# Altium schematic symbol library WL-OCPT.SchLib: 88 symbols (part 1 of 2)
Pins are listed as number, name and electrical type; pins without a type are passive.

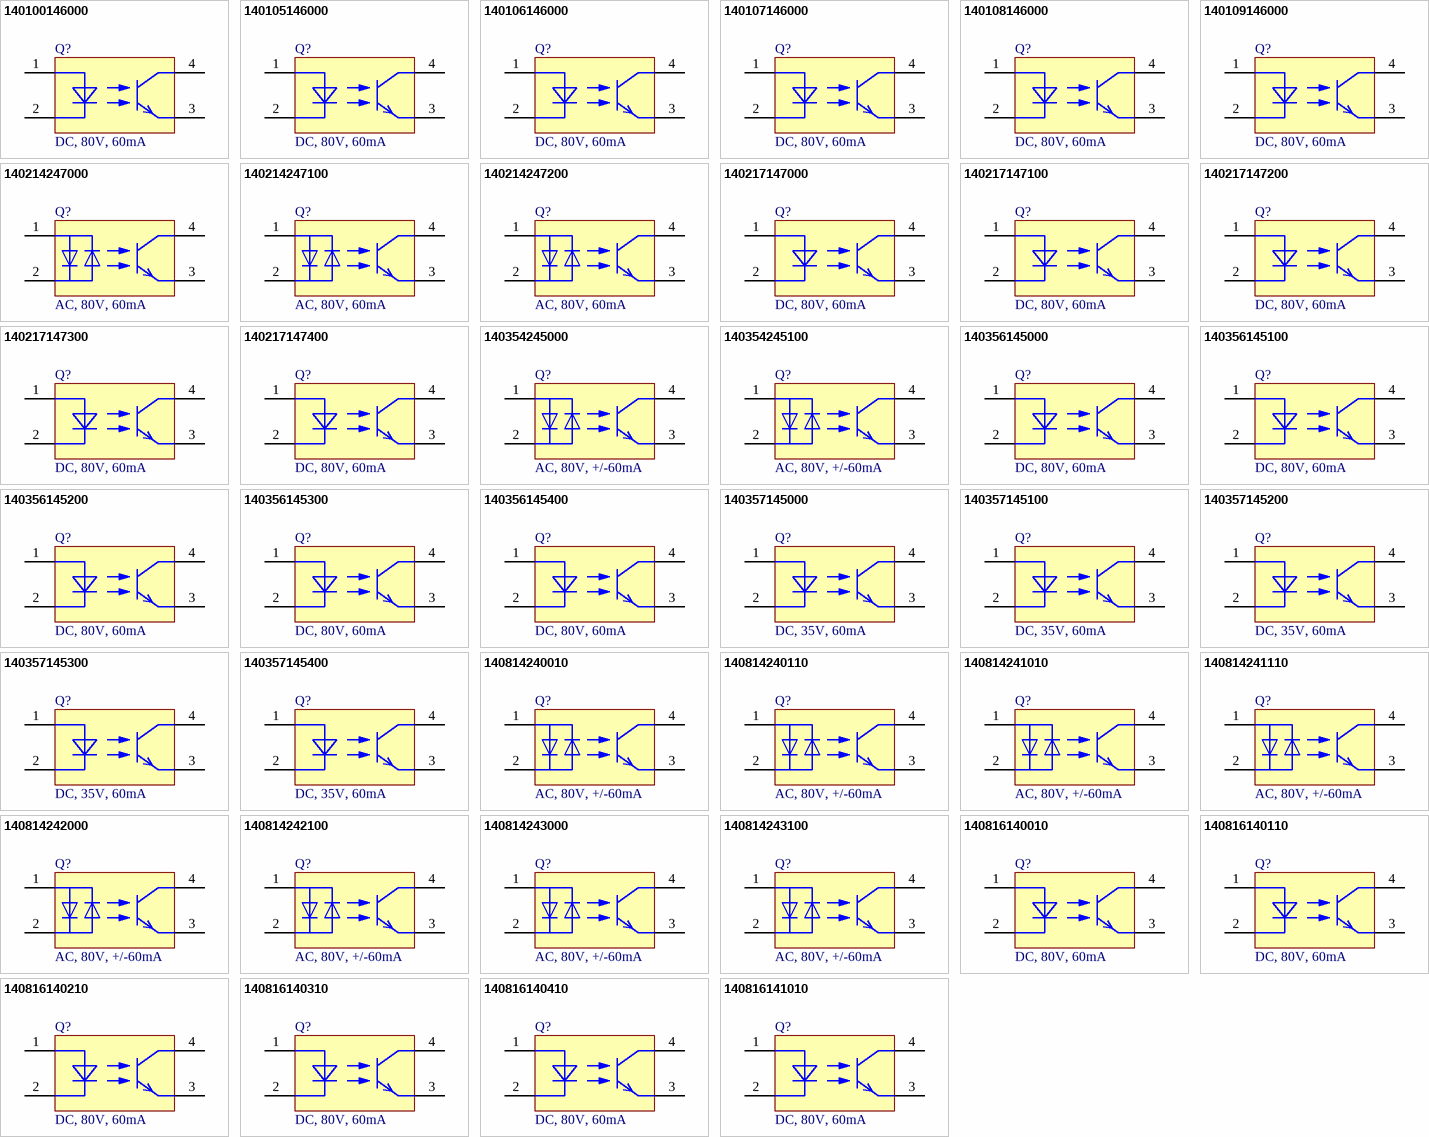
[diagram p0: symbols 140100146000 to 140816141010]

## 140100146000
designator Q?, comment DC, 80V, 60mA
WL-OCPT Optocoupler Phototransistor, LSOP4, 1 Channel, DC, 80V, 60mA; Manufacturer Part Number: 140100146000; Manufacturer: Wurth Elektronik; Current Transfer Ratio Max: 600%; Current Transfer Ratio Min: 300%; Isolation Voltage: 5000Vrms; Number of Channels: 1; Category: Optocoupler Phototransistor; Match Code: WL-OCPT; ComponentLink1Description: Website Link; ComponentLink1URL: https://www.we-online.com/redexpert/article/140100146000?ad; ComponentLink2Description: Datasheet Link; ComponentLink2URL: https://www.we-online.com/redexpert/spec/140100146000?ad; Mount: Surface Mount; Min Operating Temperature: -55°C; Max Operating Temperature: 110°C; Packaging: Tape and Reel; Case/Size Code: LSOP4; Length: 10.2mm; Width: 3.6mm; Height: 2.1mm; Collector Emitter Voltage: 80V; Forward Current: 60mA; Input: DC
footprint WL-OCPT_LSOP4
pins: 1 Anode, 2 Cathode, 3 Emitter, 4 Collector

## 140105146000
designator Q?, comment DC, 80V, 60mA
WL-OCPT Optocoupler Phototransistor, LSOP4, 1 Channel, DC, 80V, 60mA; Manufacturer Part Number: 140105146000; Manufacturer: Wurth Elektronik; Current Transfer Ratio Max: 150%; Current Transfer Ratio Min: 50%; Isolation Voltage: 5000Vrms; Number of Channels: 1; Category: Optocoupler Phototransistor; Match Code: WL-OCPT; ComponentLink1Description: Website Link; ComponentLink1URL: https://www.we-online.com/redexpert/article/140105146000?ad; ComponentLink2Description: Datasheet Link; ComponentLink2URL: https://www.we-online.com/redexpert/spec/140105146000?ad; Mount: Surface Mount; Min Operating Temperature: -55°C; Max Operating Temperature: 110°C; Packaging: Tape and Reel; Case/Size Code: LSOP4; Length: 10.2mm; Width: 3.6mm; Height: 2.1mm; Collector Emitter Voltage: 80V; Forward Current: 60mA; Input: DC
footprint WL-OCPT_LSOP4
pins: 1 Anode, 2 Cathode, 3 Emitter, 4 Collector

## 140106146000
designator Q?, comment DC, 80V, 60mA
WL-OCPT Optocoupler Phototransistor, LSOP4, 1 Channel, DC, 80V, 60mA; Manufacturer Part Number: 140106146000; Manufacturer: Wurth Elektronik; Current Transfer Ratio Max: 300%; Current Transfer Ratio Min: 100%; Isolation Voltage: 5000Vrms; Number of Channels: 1; Category: Optocoupler Phototransistor; Match Code: WL-OCPT; ComponentLink1Description: Website Link; ComponentLink1URL: https://www.we-online.com/redexpert/article/140106146000?ad; ComponentLink2Description: Datasheet Link; ComponentLink2URL: https://www.we-online.com/redexpert/spec/140106146000?ad; Mount: Surface Mount; Min Operating Temperature: -55°C; Max Operating Temperature: 110°C; Packaging: Tape and Reel; Case/Size Code: LSOP4; Length: 10.2mm; Width: 3.6mm; Height: 2.1mm; Collector Emitter Voltage: 80V; Forward Current: 60mA; Input: DC
footprint WL-OCPT_LSOP4
pins: 1 Anode, 2 Cathode, 3 Emitter, 4 Collector

## 140107146000
designator Q?, comment DC, 80V, 60mA
WL-OCPT Optocoupler Phototransistor, LSOP4, 1 Channel, DC, 80V, 60mA; Manufacturer Part Number: 140107146000; Manufacturer: Wurth Elektronik; Current Transfer Ratio Max: 160%; Current Transfer Ratio Min: 80%; Isolation Voltage: 5000Vrms; Number of Channels: 1; Category: Optocoupler Phototransistor; Match Code: WL-OCPT; ComponentLink1Description: Website Link; ComponentLink1URL: https://www.we-online.com/redexpert/article/140107146000?ad; ComponentLink2Description: Datasheet Link; ComponentLink2URL: https://www.we-online.com/redexpert/spec/140107146000?ad; Mount: Surface Mount; Min Operating Temperature: -55°C; Max Operating Temperature: 110°C; Packaging: Tape and Reel; Case/Size Code: LSOP4; Length: 10.2mm; Width: 3.6mm; Height: 2.1mm; Collector Emitter Voltage: 80V; Forward Current: 60mA; Input: DC
footprint WL-OCPT_LSOP4
pins: 1 Anode, 2 Cathode, 3 Emitter, 4 Collector

## 140108146000
designator Q?, comment DC, 80V, 60mA
WL-OCPT Optocoupler Phototransistor, LSOP4, 1 Channel, DC, 80V, 60mA; Manufacturer Part Number: 140108146000; Manufacturer: Wurth Elektronik; Current Transfer Ratio Max: 260%; Current Transfer Ratio Min: 130%; Isolation Voltage: 5000Vrms; Number of Channels: 1; Category: Optocoupler Phototransistor; Match Code: WL-OCPT; ComponentLink1Description: Website Link; ComponentLink1URL: https://www.we-online.com/redexpert/article/140108146000?ad; ComponentLink2Description: Datasheet Link; ComponentLink2URL: https://www.we-online.com/redexpert/spec/140108146000?ad; Mount: Surface Mount; Min Operating Temperature: -55°C; Max Operating Temperature: 110°C; Packaging: Tape and Reel; Case/Size Code: LSOP4; Length: 10.2mm; Width: 3.6mm; Height: 2.1mm; Collector Emitter Voltage: 80V; Forward Current: 60mA; Input: DC
footprint WL-OCPT_LSOP4
pins: 1 Anode, 2 Cathode, 3 Emitter, 4 Collector

## 140109146000
designator Q?, comment DC, 80V, 60mA
WL-OCPT Optocoupler Phototransistor, LSOP4, 1 Channel, DC, 80V, 60mA; Manufacturer Part Number: 140109146000; Manufacturer: Wurth Elektronik; Current Transfer Ratio Max: 400%; Current Transfer Ratio Min: 200%; Isolation Voltage: 5000Vrms; Number of Channels: 1; Category: Optocoupler Phototransistor; Match Code: WL-OCPT; ComponentLink1Description: Website Link; ComponentLink1URL: https://www.we-online.com/redexpert/article/140109146000?ad; ComponentLink2Description: Datasheet Link; ComponentLink2URL: https://www.we-online.com/redexpert/spec/140109146000?ad; Mount: Surface Mount; Min Operating Temperature: -55°C; Max Operating Temperature: 110°C; Packaging: Tape and Reel; Case/Size Code: LSOP4; Length: 10.2mm; Width: 3.6mm; Height: 2.1mm; Collector Emitter Voltage: 80V; Forward Current: 60mA; Input: DC
footprint WL-OCPT_LSOP4
pins: 1 Anode, 2 Cathode, 3 Emitter, 4 Collector

## 140214247000
designator Q?, comment AC, 80V, 60mA
WL-OCPT Optocoupler Phototransistor, SSOP4, 1 Channel, AC, 80V, 60mA; Manufacturer Part Number: 140214247000; Manufacturer: Wurth Elektronik; Current Transfer Ratio Max: 400%; Current Transfer Ratio Min: 20%; Isolation Voltage: 3750Vrms; Number of Channels: 1; Category: Optocoupler Phototransistor; Match Code: WL-OCPT; ComponentLink1Description: Website Link; ComponentLink1URL: https://www.we-online.com/redexpert/article/140214247000?ad; ComponentLink2Description: Datasheet Link; ComponentLink2URL: https://www.we-online.com/redexpert/spec/140214247000?ad; Mount: Surface Mount; Min Operating Temperature: -55°C; Max Operating Temperature: 110°C; Packaging: Tape and Reel; Case/Size Code: SSOP4; Length: 7mm; Width: 2.7mm; Height: 2.1mm; Collector Emitter Voltage: 80V; Forward Current: 60mA; Input: AC
footprint WL-OCPT_SSOP4
pins: 1 Anode/Cathode, 2 Anode/Cathode, 3 Emitter, 4 Collector

## 140214247100
designator Q?, comment AC, 80V, 60mA
WL-OCPT Optocoupler Phototransistor, SSOP4, 1 Channel, AC, 80V, 60mA; Manufacturer Part Number: 140214247100; Manufacturer: Wurth Elektronik; Current Transfer Ratio Max: 150%; Current Transfer Ratio Min: 50%; Isolation Voltage: 3750Vrms; Number of Channels: 1; Category: Optocoupler Phototransistor; Match Code: WL-OCPT; ComponentLink1Description: Website Link; ComponentLink1URL: https://www.we-online.com/redexpert/article/140214247100?ad; ComponentLink2Description: Datasheet Link; ComponentLink2URL: https://www.we-online.com/redexpert/spec/140214247100?ad; Mount: Surface Mount; Min Operating Temperature: -55°C; Max Operating Temperature: 110°C; Packaging: Tape and Reel; Case/Size Code: SSOP4; Length: 7mm; Width: 2.7mm; Height: 2.1mm; Collector Emitter Voltage: 80V; Forward Current: 60mA; Input: AC
footprint WL-OCPT_SSOP4
pins: 1 Anode/Cathode, 2 Anode/Cathode, 3 Emitter, 4 Collector

## 140214247200
designator Q?, comment AC, 80V, 60mA
WL-OCPT Optocoupler Phototransistor, SSOP4, 1 Channel, AC, 80V, 60mA; Manufacturer Part Number: 140214247200; Manufacturer: Wurth Elektronik; Current Transfer Ratio Max: 400%; Current Transfer Ratio Min: 80%; Isolation Voltage: 3750Vrms; Number of Channels: 1; Category: Optocoupler Phototransistor; Match Code: WL-OCPT; ComponentLink1Description: Website Link; ComponentLink1URL: https://www.we-online.com/redexpert/article/140214247200?ad; ComponentLink2Description: Datasheet Link; ComponentLink2URL: https://www.we-online.com/redexpert/spec/140214247200?ad; Mount: Surface Mount; Min Operating Temperature: -55°C; Max Operating Temperature: 110°C; Packaging: Tape and Reel; Case/Size Code: SSOP4; Length: 7mm; Width: 2.7mm; Height: 2.1mm; Collector Emitter Voltage: 80V; Forward Current: 60mA; Input: AC
footprint WL-OCPT_SSOP4
pins: 1 Anode/Cathode, 2 Anode/Cathode, 3 Emitter, 4 Collector

## 140217147000
designator Q?, comment DC, 80V, 60mA
WL-OCPT Optocoupler Phototransistor, SSOP4, 1 Channel, DC, 80V, 60mA; Manufacturer Part Number: 140217147000; Manufacturer: Wurth Elektronik; Current Transfer Ratio Max: 600%; Current Transfer Ratio Min: 50%; Isolation Voltage: 3750Vrms; Number of Channels: 1; Category: Optocoupler Phototransistor; Match Code: WL-OCPT; ComponentLink1Description: Website Link; ComponentLink1URL: https://www.we-online.com/redexpert/article/140217147000?ad; ComponentLink2Description: Datasheet Link; ComponentLink2URL: https://www.we-online.com/redexpert/spec/140217147000?ad; Mount: Surface Mount; Min Operating Temperature: -55°C; Max Operating Temperature: 110°C; Packaging: Tape and Reel; Case/Size Code: SSOP4; Length: 7mm; Width: 2.7mm; Height: 2.1mm; Collector Emitter Voltage: 80V; Forward Current: 60mA; Input: DC
footprint WL-OCPT_SSOP4
pins: 1 Anode, 2 Cathode, 3 Emitter, 4 Collector

## 140217147100
designator Q?, comment DC, 80V, 60mA
WL-OCPT Optocoupler Phototransistor, SSOP4, 1 Channel, DC, 80V, 60mA; Manufacturer Part Number: 140217147100; Manufacturer: Wurth Elektronik; Current Transfer Ratio Max: 160%; Current Transfer Ratio Min: 80%; Isolation Voltage: 3750Vrms; Number of Channels: 1; Category: Optocoupler Phototransistor; Match Code: WL-OCPT; ComponentLink1Description: Website Link; ComponentLink1URL: https://www.we-online.com/redexpert/article/140217147100?ad; ComponentLink2Description: Datasheet Link; ComponentLink2URL: https://www.we-online.com/redexpert/spec/140217147100?ad; Mount: Surface Mount; Min Operating Temperature: -55°C; Max Operating Temperature: 110°C; Packaging: Tape and Reel; Case/Size Code: SSOP4; Length: 7mm; Width: 2.7mm; Height: 2.1mm; Collector Emitter Voltage: 80V; Forward Current: 60mA; Input: DC
footprint WL-OCPT_SSOP4
pins: 1 Anode, 2 Cathode, 3 Emitter, 4 Collector

## 140217147200
designator Q?, comment DC, 80V, 60mA
WL-OCPT Optocoupler Phototransistor, SSOP4, 1 Channel, DC, 80V, 60mA; Manufacturer Part Number: 140217147200; Manufacturer: Wurth Elektronik; Current Transfer Ratio Max: 260%; Current Transfer Ratio Min: 130%; Isolation Voltage: 3750Vrms; Number of Channels: 1; Category: Optocoupler Phototransistor; Match Code: WL-OCPT; ComponentLink1Description: Website Link; ComponentLink1URL: https://www.we-online.com/redexpert/article/140217147200?ad; ComponentLink2Description: Datasheet Link; ComponentLink2URL: https://www.we-online.com/redexpert/spec/140217147200?ad; Mount: Surface Mount; Min Operating Temperature: -55°C; Max Operating Temperature: 110°C; Packaging: Tape and Reel; Case/Size Code: SSOP4; Length: 7mm; Width: 2.7mm; Height: 2.1mm; Collector Emitter Voltage: 80V; Forward Current: 60mA; Input: DC
footprint WL-OCPT_SSOP4
pins: 1 Anode, 2 Cathode, 3 Emitter, 4 Collector

## 140217147300
designator Q?, comment DC, 80V, 60mA
WL-OCPT Optocoupler Phototransistor, SSOP4, 1 Channel, DC, 80V, 60mA; Manufacturer Part Number: 140217147300; Manufacturer: Wurth Elektronik; Current Transfer Ratio Max: 400%; Current Transfer Ratio Min: 200%; Isolation Voltage: 3750Vrms; Number of Channels: 1; Category: Optocoupler Phototransistor; Match Code: WL-OCPT; ComponentLink1Description: Website Link; ComponentLink1URL: https://www.we-online.com/redexpert/article/140217147300?ad; ComponentLink2Description: Datasheet Link; ComponentLink2URL: https://www.we-online.com/redexpert/spec/140217147300?ad; Mount: Surface Mount; Min Operating Temperature: -55°C; Max Operating Temperature: 110°C; Packaging: Tape and Reel; Case/Size Code: SSOP4; Length: 7mm; Width: 2.7mm; Height: 2.1mm; Collector Emitter Voltage: 80V; Forward Current: 60mA; Input: DC
footprint WL-OCPT_SSOP4
pins: 1 Anode, 2 Cathode, 3 Emitter, 4 Collector

## 140217147400
designator Q?, comment DC, 80V, 60mA
WL-OCPT Optocoupler Phototransistor, SSOP4, 1 Channel, DC, 80V, 60mA; Manufacturer Part Number: 140217147400; Manufacturer: Wurth Elektronik; Current Transfer Ratio Max: 600%; Current Transfer Ratio Min: 300%; Isolation Voltage: 3750Vrms; Number of Channels: 1; Category: Optocoupler Phototransistor; Match Code: WL-OCPT; ComponentLink1Description: Website Link; ComponentLink1URL: https://www.we-online.com/redexpert/article/140217147400?ad; ComponentLink2Description: Datasheet Link; ComponentLink2URL: https://www.we-online.com/redexpert/spec/140217147400?ad; Mount: Surface Mount; Min Operating Temperature: -55°C; Max Operating Temperature: 110°C; Packaging: Tape and Reel; Case/Size Code: SSOP4; Length: 7mm; Width: 2.7mm; Height: 2.1mm; Collector Emitter Voltage: 80V; Forward Current: 60mA; Input: DC
footprint WL-OCPT_SSOP4
pins: 1 Anode, 2 Cathode, 3 Emitter, 4 Collector

## 140354245000
designator Q?, comment AC, 80V, +/-60mA
WL-OCPT Optocoupler Phototransistor, SOP4, 1 Channel, AC, 80V, +/-60mA; Manufacturer Part Number: 140354245000; Manufacturer: Wurth Elektronik; Current Transfer Ratio Max: 300%; Current Transfer Ratio Min: 20%; Isolation Voltage: 3750Vrms; Number of Channels: 1; Category: Optocoupler Phototransistor; Match Code: WL-OCPT; ComponentLink1Description: Website Link; ComponentLink1URL: https://www.we-online.com/redexpert/article/140354245000?ad; ComponentLink2Description: Datasheet Link; ComponentLink2URL: https://www.we-online.com/redexpert/spec/140354245000?ad; Mount: Surface Mount; Min Operating Temperature: -55°C; Max Operating Temperature: 110°C; Packaging: Tape and Reel; Case/Size Code: SOP4; Length: 7mm; Width: 3.6mm; Height: 2.1mm; Collector Emitter Voltage: 80V; Forward Current: +/-60mA; Input: AC
footprint WL-OCPT_SOP4
pins: 1 Anode/Cathode, 2 Anode/Cathode, 3 Emitter, 4 Collector

## 140354245100
designator Q?, comment AC, 80V, +/-60mA
WL-OCPT Optocoupler Phototransistor, SOP4, 1 Channel, AC, 80V, +/-60mA; Manufacturer Part Number: 140354245100; Manufacturer: Wurth Elektronik; Current Transfer Ratio Max: 150%; Current Transfer Ratio Min: 50%; Isolation Voltage: 3750Vrms; Number of Channels: 1; Category: Optocoupler Phototransistor; Match Code: WL-OCPT; ComponentLink1Description: Website Link; ComponentLink1URL: https://www.we-online.com/redexpert/article/140354245100?ad; ComponentLink2Description: Datasheet Link; ComponentLink2URL: https://www.we-online.com/redexpert/spec/140354245100?ad; Mount: Surface Mount; Min Operating Temperature: -55°C; Max Operating Temperature: 110°C; Packaging: Tape and Reel; Case/Size Code: SOP4; Length: 7mm; Width: 3.6mm; Height: 2.1mm; Collector Emitter Voltage: 80V; Forward Current: +/-60mA; Input: AC
footprint WL-OCPT_SOP4
pins: 1 Anode/Cathode, 2 Anode/Cathode, 3 Emitter, 4 Collector

## 140356145000
designator Q?, comment DC, 80V, 60mA
WL-OCPT Optocoupler Phototransistor, SOP4, 1 Channel, DC, 80V, 60mA; Manufacturer Part Number: 140356145000; Manufacturer: Wurth Elektronik; Current Transfer Ratio Max: 600%; Current Transfer Ratio Min: 50%; Isolation Voltage: 3750Vrms; Number of Channels: 1; Category: Optocoupler Phototransistor; Match Code: WL-OCPT; ComponentLink1Description: Website Link; ComponentLink1URL: https://www.we-online.com/redexpert/article/140356145000?ad; ComponentLink2Description: Datasheet Link; ComponentLink2URL: https://www.we-online.com/redexpert/spec/140356145000?ad; Mount: Surface Mount; Min Operating Temperature: -55°C; Max Operating Temperature: 110°C; Packaging: Tape and Reel; Case/Size Code: SOP4; Length: 7mm; Width: 3.6mm; Height: 2.1mm; Collector Emitter Voltage: 80V; Forward Current: 60mA; Input: DC
footprint WL-OCPT_SOP4
pins: 1 Anode, 2 Cathode, 3 Emitter, 4 Collector

## 140356145100
designator Q?, comment DC, 80V, 60mA
WL-OCPT Optocoupler Phototransistor, SOP4, 1 Channel, DC, 80V, 60mA; Manufacturer Part Number: 140356145100; Manufacturer: Wurth Elektronik; Current Transfer Ratio Max: 160%; Current Transfer Ratio Min: 80%; Isolation Voltage: 3750Vrms; Number of Channels: 1; Category: Optocoupler Phototransistor; Match Code: WL-OCPT; ComponentLink1Description: Website Link; ComponentLink1URL: https://www.we-online.com/redexpert/article/140356145100?ad; ComponentLink2Description: Datasheet Link; ComponentLink2URL: https://www.we-online.com/redexpert/spec/140356145100?ad; Mount: Surface Mount; Min Operating Temperature: -55°C; Max Operating Temperature: 110°C; Packaging: Tape and Reel; Case/Size Code: SOP4; Length: 7mm; Width: 3.6mm; Height: 2.1mm; Collector Emitter Voltage: 80V; Forward Current: 60mA; Input: DC
footprint WL-OCPT_SOP4
pins: 1 Anode, 2 Cathode, 3 Emitter, 4 Collector

## 140356145200
designator Q?, comment DC, 80V, 60mA
WL-OCPT Optocoupler Phototransistor, SOP4, 1 Channel, DC, 80V, 60mA; Manufacturer Part Number: 140356145200; Manufacturer: Wurth Elektronik; Current Transfer Ratio Max: 260%; Current Transfer Ratio Min: 130%; Isolation Voltage: 3750Vrms; Number of Channels: 1; Category: Optocoupler Phototransistor; Match Code: WL-OCPT; ComponentLink1Description: Website Link; ComponentLink1URL: https://www.we-online.com/redexpert/article/140356145200?ad; ComponentLink2Description: Datasheet Link; ComponentLink2URL: https://www.we-online.com/redexpert/spec/140356145200?ad; Mount: Surface Mount; Min Operating Temperature: -55°C; Max Operating Temperature: 110°C; Packaging: Tape and Reel; Case/Size Code: SOP4; Length: 7mm; Width: 3.6mm; Height: 2.1mm; Collector Emitter Voltage: 80V; Forward Current: 60mA; Input: DC
footprint WL-OCPT_SOP4
pins: 1 Anode, 2 Cathode, 3 Emitter, 4 Collector

## 140356145300
designator Q?, comment DC, 80V, 60mA
WL-OCPT Optocoupler Phototransistor, SOP4, 1 Channel, DC, 80V, 60mA; Manufacturer Part Number: 140356145300; Manufacturer: Wurth Elektronik; Current Transfer Ratio Max: 400%; Current Transfer Ratio Min: 200%; Isolation Voltage: 3750Vrms; Number of Channels: 1; Category: Optocoupler Phototransistor; Match Code: WL-OCPT; ComponentLink1Description: Website Link; ComponentLink1URL: https://www.we-online.com/redexpert/article/140356145300?ad; ComponentLink2Description: Datasheet Link; ComponentLink2URL: https://www.we-online.com/redexpert/spec/140356145300?ad; Mount: Surface Mount; Min Operating Temperature: -55°C; Max Operating Temperature: 110°C; Packaging: Tape and Reel; Case/Size Code: SOP4; Length: 7mm; Width: 3.6mm; Height: 2.1mm; Collector Emitter Voltage: 80V; Forward Current: 60mA; Input: DC
footprint WL-OCPT_SOP4
pins: 1 Anode, 2 Cathode, 3 Emitter, 4 Collector

## 140356145400
designator Q?, comment DC, 80V, 60mA
WL-OCPT Optocoupler Phototransistor, SOP4, 1 Channel, DC, 80V, 60mA; Manufacturer Part Number: 140356145400; Manufacturer: Wurth Elektronik; Current Transfer Ratio Max: 600%; Current Transfer Ratio Min: 300%; Isolation Voltage: 3750Vrms; Number of Channels: 1; Category: Optocoupler Phototransistor; Match Code: WL-OCPT; ComponentLink1Description: Website Link; ComponentLink1URL: https://www.we-online.com/redexpert/article/140356145400?ad; ComponentLink2Description: Datasheet Link; ComponentLink2URL: https://www.we-online.com/redexpert/spec/140356145400?ad; Mount: Surface Mount; Min Operating Temperature: -55°C; Max Operating Temperature: 110°C; Packaging: Tape and Reel; Case/Size Code: SOP4; Length: 7mm; Width: 3.6mm; Height: 2.1mm; Collector Emitter Voltage: 80V; Forward Current: 60mA; Input: DC
footprint WL-OCPT_SOP4
pins: 1 Anode, 2 Cathode, 3 Emitter, 4 Collector

## 140357145000
designator Q?, comment DC, 35V, 60mA
WL-OCPT Optocoupler Phototransistor, SOP4, 1 Channel, DC, 35V, 60mA; Manufacturer Part Number: 140357145000; Manufacturer: Wurth Elektronik; Current Transfer Ratio Max: 600%; Current Transfer Ratio Min: 50%; Isolation Voltage: 3750Vrms; Number of Channels: 1; Category: Optocoupler Phototransistor; Match Code: WL-OCPT; ComponentLink1Description: Website Link; ComponentLink1URL: https://www.we-online.com/redexpert/article/140357145000?ad; ComponentLink2Description: Datasheet Link; ComponentLink2URL: https://www.we-online.com/redexpert/spec/140357145000?ad; Mount: Surface Mount; Min Operating Temperature: -55°C; Max Operating Temperature: 110°C; Packaging: Tape and Reel; Case/Size Code: SOP4; Length: 7mm; Width: 3.6mm; Height: 2.1mm; Collector Emitter Voltage: 35V; Forward Current: 60mA; Input: DC
footprint WL-OCPT_SOP4
pins: 1 Anode, 2 Cathode, 3 Emitter, 4 Collector

## 140357145100
designator Q?, comment DC, 35V, 60mA
WL-OCPT Optocoupler Phototransistor, SOP4, 1 Channel, DC, 35V, 60mA; Manufacturer Part Number: 140357145100; Manufacturer: Wurth Elektronik; Current Transfer Ratio Max: 160%; Current Transfer Ratio Min: 80%; Isolation Voltage: 3750Vrms; Number of Channels: 1; Category: Optocoupler Phototransistor; Match Code: WL-OCPT; ComponentLink1Description: Website Link; ComponentLink1URL: https://www.we-online.com/redexpert/article/140357145100?ad; ComponentLink2Description: Datasheet Link; ComponentLink2URL: https://www.we-online.com/redexpert/spec/140357145100?ad; Mount: Surface Mount; Min Operating Temperature: -55°C; Max Operating Temperature: 110°C; Packaging: Tape and Reel; Case/Size Code: SOP4; Length: 7mm; Width: 3.6mm; Height: 2.1mm; Collector Emitter Voltage: 35V; Forward Current: 60mA; Input: DC
footprint WL-OCPT_SOP4
pins: 1 Anode, 2 Cathode, 3 Emitter, 4 Collector

## 140357145200
designator Q?, comment DC, 35V, 60mA
WL-OCPT Optocoupler Phototransistor, SOP4, 1 Channel, DC, 35V, 60mA; Manufacturer Part Number: 140357145200; Manufacturer: Wurth Elektronik; Current Transfer Ratio Max: 260%; Current Transfer Ratio Min: 130%; Isolation Voltage: 3750Vrms; Number of Channels: 1; Category: Optocoupler Phototransistor; Match Code: WL-OCPT; ComponentLink1Description: Website Link; ComponentLink1URL: https://www.we-online.com/redexpert/article/140357145200?ad; ComponentLink2Description: Datasheet Link; ComponentLink2URL: https://www.we-online.com/redexpert/spec/140357145200?ad; Mount: Surface Mount; Min Operating Temperature: -55°C; Max Operating Temperature: 110°C; Packaging: Tape and Reel; Case/Size Code: SOP4; Length: 7mm; Width: 3.6mm; Height: 2.1mm; Collector Emitter Voltage: 35V; Forward Current: 60mA; Input: DC
footprint WL-OCPT_SOP4
pins: 1 Anode, 2 Cathode, 3 Emitter, 4 Collector

## 140357145300
designator Q?, comment DC, 35V, 60mA
WL-OCPT Optocoupler Phototransistor, SOP4, 1 Channel, DC, 35V, 60mA; Manufacturer Part Number: 140357145300; Manufacturer: Wurth Elektronik; Current Transfer Ratio Max: 400%; Current Transfer Ratio Min: 200%; Isolation Voltage: 3750Vrms; Number of Channels: 1; Category: Optocoupler Phototransistor; Match Code: WL-OCPT; ComponentLink1Description: Website Link; ComponentLink1URL: https://www.we-online.com/redexpert/article/140357145300?ad; ComponentLink2Description: Datasheet Link; ComponentLink2URL: https://www.we-online.com/redexpert/spec/140357145300?ad; Mount: Surface Mount; Min Operating Temperature: -55°C; Max Operating Temperature: 110°C; Packaging: Tape and Reel; Case/Size Code: SOP4; Length: 7mm; Width: 3.6mm; Height: 2.1mm; Collector Emitter Voltage: 35V; Forward Current: 60mA; Input: DC
footprint WL-OCPT_SOP4
pins: 1 Anode, 2 Cathode, 3 Emitter, 4 Collector

## 140357145400
designator Q?, comment DC, 35V, 60mA
WL-OCPT Optocoupler Phototransistor, SOP4, 1 Channel, DC, 35V, 60mA; Manufacturer Part Number: 140357145400; Manufacturer: Wurth Elektronik; Current Transfer Ratio Max: 600%; Current Transfer Ratio Min: 300%; Isolation Voltage: 3750Vrms; Number of Channels: 1; Category: Optocoupler Phototransistor; Match Code: WL-OCPT; ComponentLink1Description: Website Link; ComponentLink1URL: https://www.we-online.com/redexpert/article/140357145400?ad; ComponentLink2Description: Datasheet Link; ComponentLink2URL: https://www.we-online.com/redexpert/spec/140357145400?ad; Mount: Surface Mount; Min Operating Temperature: -55°C; Max Operating Temperature: 110°C; Packaging: Tape and Reel; Case/Size Code: SOP4; Length: 7mm; Width: 3.6mm; Height: 2.1mm; Collector Emitter Voltage: 35V; Forward Current: 60mA; Input: DC
footprint WL-OCPT_SOP4
pins: 1 Anode, 2 Cathode, 3 Emitter, 4 Collector

## 140814240010
designator Q?, comment AC, 80V, +/-60mA
WL-OCPT Optocoupler Phototransistor, DIP4_Standard, 1 Channel, AC, 80V, +/-60mA; Manufacturer Part Number: 140814240010; Manufacturer: Wurth Elektronik; Current Transfer Ratio Max: 300%; Current Transfer Ratio Min: 20%; Isolation Voltage: 5000Vrms; Number of Channels: 1; Category: Optocoupler Phototransistor; Match Code: WL-OCPT; ComponentLink1Description: Website Link; ComponentLink1URL: https://www.we-online.com/redexpert/article/140814240010?ad; ComponentLink2Description: Datasheet Link; ComponentLink2URL: https://www.we-online.com/redexpert/spec/140814240010?ad; Mount: Through Hole; Min Operating Temperature: -55°C; Max Operating Temperature: 110°C; Packaging: Tube; Case/Size Code: DIP4_Standard; Length: 9.5mm; Width: 4.58mm; Height: 4.5mm; Collector Emitter Voltage: 80V; Forward Current: +/-60mA; Input: AC
footprint WL-OCPT_DIP4_Standard
pins: 1 Anode/Cathode, 2 Anode/Cathode, 3 Emitter, 4 Collector

## 140814240110
designator Q?, comment AC, 80V, +/-60mA
WL-OCPT Optocoupler Phototransistor, DIP4_Standard, 1 Channel, AC, 80V, +/-60mA; Manufacturer Part Number: 140814240110; Manufacturer: Wurth Elektronik; Current Transfer Ratio Max: 150%; Current Transfer Ratio Min: 50%; Isolation Voltage: 5000Vrms; Number of Channels: 1; Category: Optocoupler Phototransistor; Match Code: WL-OCPT; ComponentLink1Description: Website Link; ComponentLink1URL: https://www.we-online.com/redexpert/article/140814240110?ad; ComponentLink2Description: Datasheet Link; ComponentLink2URL: https://www.we-online.com/redexpert/spec/140814240110?ad; Mount: Through Hole; Min Operating Temperature: -55°C; Max Operating Temperature: 110°C; Packaging: Tube; Case/Size Code: DIP4_Standard; Length: 9.5mm; Width: 4.58mm; Height: 4.5mm; Collector Emitter Voltage: 80V; Forward Current: +/-60mA; Input: AC
footprint WL-OCPT_DIP4_Standard
pins: 1 Anode/Cathode, 2 Anode/Cathode, 3 Emitter, 4 Collector

## 140814241010
designator Q?, comment AC, 80V, +/-60mA
WL-OCPT Optocoupler Phototransistor, DIP4_M-Type, 1 Channel, AC, 80V, +/-60mA; Manufacturer Part Number: 140814241010; Manufacturer: Wurth Elektronik; Current Transfer Ratio Max: 300%; Current Transfer Ratio Min: 20%; Isolation Voltage: 5000Vrms; Number of Channels: 1; Category: Optocoupler Phototransistor; Match Code: WL-OCPT; ComponentLink1Description: Website Link; ComponentLink1URL: https://www.we-online.com/redexpert/article/140814241010?ad; ComponentLink2Description: Datasheet Link; ComponentLink2URL: https://www.we-online.com/redexpert/spec/140814241010?ad; Mount: Through Hole; Min Operating Temperature: -55°C; Max Operating Temperature: 110°C; Packaging: Tube; Case/Size Code: DIP4_M-Type; Length: 10.16mm; Width: 4.58mm; Height: 4.58mm; Collector Emitter Voltage: 80V; Forward Current: +/-60mA; Input: AC
footprint WL-OCPT_DIP4_M-Type
pins: 1 Anode/Cathode, 2 Anode/Cathode, 3 Emitter, 4 Collector

## 140814241110
designator Q?, comment AC, 80V, +/-60mA
WL-OCPT Optocoupler Phototransistor, DIP4_M-Type, 1 Channel, AC, 80V, +/-60mA; Manufacturer Part Number: 140814241110; Manufacturer: Wurth Elektronik; Current Transfer Ratio Max: 150%; Current Transfer Ratio Min: 50%; Isolation Voltage: 5000Vrms; Number of Channels: 1; Category: Optocoupler Phototransistor; Match Code: WL-OCPT; ComponentLink1Description: Website Link; ComponentLink1URL: https://www.we-online.com/redexpert/article/140814241110?ad; ComponentLink2Description: Datasheet Link; ComponentLink2URL: https://www.we-online.com/redexpert/spec/140814241110?ad; Mount: Through Hole; Min Operating Temperature: -55°C; Max Operating Temperature: 110°C; Packaging: Tube; Case/Size Code: DIP4_M-Type; Length: 10.16mm; Width: 4.58mm; Height: 4.58mm; Collector Emitter Voltage: 80V; Forward Current: +/-60mA; Input: AC
footprint WL-OCPT_DIP4_M-Type
pins: 1 Anode/Cathode, 2 Anode/Cathode, 3 Emitter, 4 Collector

## 140814242000
designator Q?, comment AC, 80V, +/-60mA
WL-OCPT Optocoupler Phototransistor, DIP4_S-Type, 1 Channel, AC, 80V, +/-60mA; Manufacturer Part Number: 140814242000; Manufacturer: Wurth Elektronik; Current Transfer Ratio Max: 300%; Current Transfer Ratio Min: 20%; Isolation Voltage: 5000Vrms; Number of Channels: 1; Category: Optocoupler Phototransistor; Match Code: WL-OCPT; ComponentLink1Description: Website Link; ComponentLink1URL: https://www.we-online.com/redexpert/article/140814242000?ad; ComponentLink2Description: Datasheet Link; ComponentLink2URL: https://www.we-online.com/redexpert/spec/140814242000?ad; Mount: Surface Mount; Min Operating Temperature: -55°C; Max Operating Temperature: 110°C; Packaging: Tape and Reel; Case/Size Code: DIP4_S-Type; Length: 10.15mm; Width: 4.58mm; Height: 4.3mm; Collector Emitter Voltage: 80V; Forward Current: +/-60mA; Input: AC
footprint WL-OCPT_DIP4_S-Type
pins: 1 Anode/Cathode, 2 Anode/Cathode, 3 Emitter, 4 Collector

## 140814242100
designator Q?, comment AC, 80V, +/-60mA
WL-OCPT Optocoupler Phototransistor, DIP4_S-Type, 1 Channel, AC, 80V, +/-60mA; Manufacturer Part Number: 140814242100; Manufacturer: Wurth Elektronik; Current Transfer Ratio Max: 150%; Current Transfer Ratio Min: 50%; Isolation Voltage: 5000Vrms; Number of Channels: 1; Category: Optocoupler Phototransistor; Match Code: WL-OCPT; ComponentLink1Description: Website Link; ComponentLink1URL: https://www.we-online.com/redexpert/article/140814242100?ad; ComponentLink2Description: Datasheet Link; ComponentLink2URL: https://www.we-online.com/redexpert/spec/140814242100?ad; Mount: Surface Mount; Min Operating Temperature: -55°C; Max Operating Temperature: 110°C; Packaging: Tape and Reel; Case/Size Code: DIP4_S-Type; Length: 10.15mm; Width: 4.58mm; Height: 4.3mm; Collector Emitter Voltage: 80V; Forward Current: +/-60mA; Input: AC
footprint WL-OCPT_DIP4_S-Type
pins: 1 Anode/Cathode, 2 Anode/Cathode, 3 Emitter, 4 Collector

## 140814243000
designator Q?, comment AC, 80V, +/-60mA
WL-OCPT Optocoupler Phototransistor, DIP4_SL-Type, 1 Channel, AC, 80V, +/-60mA; Manufacturer Part Number: 140814243000; Manufacturer: Wurth Elektronik; Current Transfer Ratio Max: 300%; Current Transfer Ratio Min: 20%; Isolation Voltage: 5000Vrms; Number of Channels: 1; Category: Optocoupler Phototransistor; Match Code: WL-OCPT; ComponentLink1Description: Website Link; ComponentLink1URL: https://www.we-online.com/redexpert/article/140814243000?ad; ComponentLink2Description: Datasheet Link; ComponentLink2URL: https://www.we-online.com/redexpert/spec/140814243000?ad; Mount: Surface Mount; Min Operating Temperature: -55°C; Max Operating Temperature: 110°C; Packaging: Tape and Reel; Case/Size Code: DIP4_SL-Type; Length: 10.15mm; Width: 4.58mm; Height: 3.6mm; Collector Emitter Voltage: 80V; Forward Current: +/-60mA; Input: AC
footprint WL-OCPT_DIP4_SL-Type
pins: 1 Anode/Cathode, 2 Anode/Cathode, 3 Emitter, 4 Collector

## 140814243100
designator Q?, comment AC, 80V, +/-60mA
WL-OCPT Optocoupler Phototransistor, DIP4_SL-Type, 1 Channel, AC, 80V, +/-60mA; Manufacturer Part Number: 140814243100; Manufacturer: Wurth Elektronik; Current Transfer Ratio Max: 150%; Current Transfer Ratio Min: 50%; Isolation Voltage: 5000Vrms; Number of Channels: 1; Category: Optocoupler Phototransistor; Match Code: WL-OCPT; ComponentLink1Description: Website Link; ComponentLink1URL: https://www.we-online.com/redexpert/article/140814243100?ad; ComponentLink2Description: Datasheet Link; ComponentLink2URL: https://www.we-online.com/redexpert/spec/140814243100?ad; Mount: Surface Mount; Min Operating Temperature: -55°C; Max Operating Temperature: 110°C; Packaging: Tape and Reel; Case/Size Code: DIP4_SL-Type; Length: 10.15mm; Width: 4.58mm; Height: 3.6mm; Collector Emitter Voltage: 80V; Forward Current: +/-60mA; Input: AC
footprint WL-OCPT_DIP4_SL-Type
pins: 1 Anode/Cathode, 2 Anode/Cathode, 3 Emitter, 4 Collector

## 140816140010
designator Q?, comment DC, 80V, 60mA
WL-OCPT Optocoupler Phototransistor, DIP4_Standard, 1 Channel, DC, 80V, 60mA; Manufacturer Part Number: 140816140010; Manufacturer: Wurth Elektronik; Current Transfer Ratio Max: 600%; Current Transfer Ratio Min: 50%; Isolation Voltage: 5000Vrms; Number of Channels: 1; Category: Optocoupler Phototransistor; Match Code: WL-OCPT; ComponentLink1Description: Website Link; ComponentLink1URL: https://www.we-online.com/redexpert/article/140816140010?ad; ComponentLink2Description: Datasheet Link; ComponentLink2URL: https://www.we-online.com/redexpert/spec/140816140010?ad; Mount: Through Hole; Min Operating Temperature: -55°C; Max Operating Temperature: 110°C; Packaging: Tube; Case/Size Code: DIP4_Standard; Length: 9.5mm; Width: 4.58mm; Height: 4.5mm; Collector Emitter Voltage: 80V; Forward Current: 60mA; Input: DC
footprint WL-OCPT_DIP4_Standard
pins: 1 Anode, 2 Cathode, 3 Emitter, 4 Collector

## 140816140110
designator Q?, comment DC, 80V, 60mA
WL-OCPT Optocoupler Phototransistor, DIP4_Standard, 1 Channel, DC, 80V, 60mA; Manufacturer Part Number: 140816140110; Manufacturer: Wurth Elektronik; Current Transfer Ratio Max: 160%; Current Transfer Ratio Min: 80%; Isolation Voltage: 5000Vrms; Number of Channels: 1; Category: Optocoupler Phototransistor; Match Code: WL-OCPT; ComponentLink1Description: Website Link; ComponentLink1URL: https://www.we-online.com/redexpert/article/140816140110?ad; ComponentLink2Description: Datasheet Link; ComponentLink2URL: https://www.we-online.com/redexpert/spec/140816140110?ad; Mount: Through Hole; Min Operating Temperature: -55°C; Max Operating Temperature: 110°C; Packaging: Tube; Case/Size Code: DIP4_Standard; Length: 9.5mm; Width: 4.58mm; Height: 4.5mm; Collector Emitter Voltage: 80V; Forward Current: 60mA; Input: DC
footprint WL-OCPT_DIP4_Standard
pins: 1 Anode, 2 Cathode, 3 Emitter, 4 Collector

## 140816140210
designator Q?, comment DC, 80V, 60mA
WL-OCPT Optocoupler Phototransistor, DIP4_Standard, 1 Channel, DC, 80V, 60mA; Manufacturer Part Number: 140816140210; Manufacturer: Wurth Elektronik; Current Transfer Ratio Max: 260%; Current Transfer Ratio Min: 130%; Isolation Voltage: 5000Vrms; Number of Channels: 1; Category: Optocoupler Phototransistor; Match Code: WL-OCPT; ComponentLink1Description: Website Link; ComponentLink1URL: https://www.we-online.com/redexpert/article/140816140210?ad; ComponentLink2Description: Datasheet Link; ComponentLink2URL: https://www.we-online.com/redexpert/spec/140816140210?ad; Mount: Through Hole; Min Operating Temperature: -55°C; Max Operating Temperature: 110°C; Packaging: Tube; Case/Size Code: DIP4_Standard; Length: 9.5mm; Width: 4.58mm; Height: 4.5mm; Collector Emitter Voltage: 80V; Forward Current: 60mA; Input: DC
footprint WL-OCPT_DIP4_Standard
pins: 1 Anode, 2 Cathode, 3 Emitter, 4 Collector

## 140816140310
designator Q?, comment DC, 80V, 60mA
WL-OCPT Optocoupler Phototransistor, DIP4_Standard, 1 Channel, DC, 80V, 60mA; Manufacturer Part Number: 140816140310; Manufacturer: Wurth Elektronik; Current Transfer Ratio Max: 400%; Current Transfer Ratio Min: 200%; Isolation Voltage: 5000Vrms; Number of Channels: 1; Category: Optocoupler Phototransistor; Match Code: WL-OCPT; ComponentLink1Description: Website Link; ComponentLink1URL: https://www.we-online.com/redexpert/article/140816140310?ad; ComponentLink2Description: Datasheet Link; ComponentLink2URL: https://www.we-online.com/redexpert/spec/140816140310?ad; Mount: Through Hole; Min Operating Temperature: -55°C; Max Operating Temperature: 110°C; Packaging: Tube; Case/Size Code: DIP4_Standard; Length: 9.5mm; Width: 4.58mm; Height: 4.5mm; Collector Emitter Voltage: 80V; Forward Current: 60mA; Input: DC
footprint WL-OCPT_DIP4_Standard
pins: 1 Anode, 2 Cathode, 3 Emitter, 4 Collector

## 140816140410
designator Q?, comment DC, 80V, 60mA
WL-OCPT Optocoupler Phototransistor, DIP4_Standard, 1 Channel, DC, 80V, 60mA; Manufacturer Part Number: 140816140410; Manufacturer: Wurth Elektronik; Current Transfer Ratio Max: 600%; Current Transfer Ratio Min: 300%; Isolation Voltage: 5000Vrms; Number of Channels: 1; Category: Optocoupler Phototransistor; Match Code: WL-OCPT; ComponentLink1Description: Website Link; ComponentLink1URL: https://www.we-online.com/redexpert/article/140816140410?ad; ComponentLink2Description: Datasheet Link; ComponentLink2URL: https://www.we-online.com/redexpert/spec/140816140410?ad; Mount: Through Hole; Min Operating Temperature: -55°C; Max Operating Temperature: 110°C; Packaging: Tube; Case/Size Code: DIP4_Standard; Length: 9.5mm; Width: 4.58mm; Height: 4.5mm; Collector Emitter Voltage: 80V; Forward Current: 60mA; Input: DC
footprint WL-OCPT_DIP4_Standard
pins: 1 Anode, 2 Cathode, 3 Emitter, 4 Collector

## 140816141010
designator Q?, comment DC, 80V, 60mA
WL-OCPT Optocoupler Phototransistor, DIP4_M-Type, 1 Channel, DC, 80V, 60mA; Manufacturer Part Number: 140816141010; Manufacturer: Wurth Elektronik; Current Transfer Ratio Max: 600%; Current Transfer Ratio Min: 50%; Isolation Voltage: 5000Vrms; Number of Channels: 1; Category: Optocoupler Phototransistor; Match Code: WL-OCPT; ComponentLink1Description: Website Link; ComponentLink1URL: https://www.we-online.com/redexpert/article/140816141010?ad; ComponentLink2Description: Datasheet Link; ComponentLink2URL: https://www.we-online.com/redexpert/spec/140816141010?ad; Mount: Through Hole; Min Operating Temperature: -55°C; Max Operating Temperature: 110°C; Packaging: Tube; Case/Size Code: DIP4_M-Type; Length: 10.16mm; Width: 4.58mm; Height: 4.58mm; Collector Emitter Voltage: 80V; Forward Current: 60mA; Input: DC
footprint WL-OCPT_DIP4_M-Type
pins: 1 Anode, 2 Cathode, 3 Emitter, 4 Collector

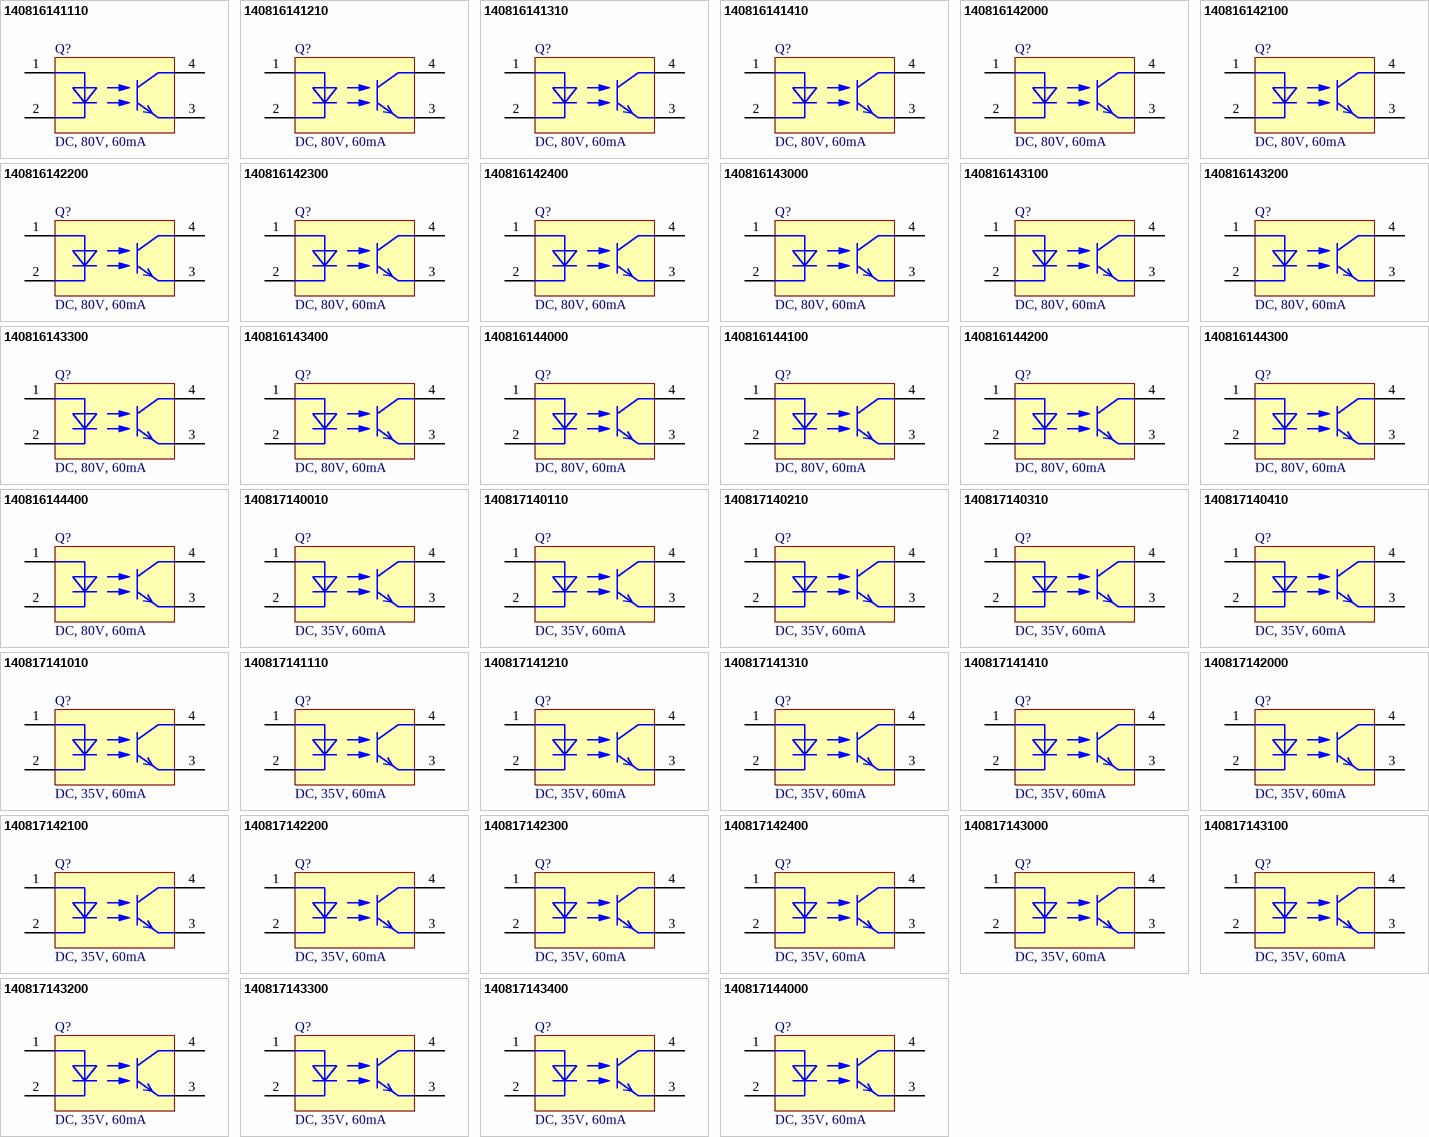
[diagram p1: symbols 140816141110 to 140817144000]

## 140816141110
designator Q?, comment DC, 80V, 60mA
WL-OCPT Optocoupler Phototransistor, DIP4_M-Type, 1 Channel, DC, 80V, 60mA; Manufacturer Part Number: 140816141110; Manufacturer: Wurth Elektronik; Current Transfer Ratio Max: 160%; Current Transfer Ratio Min: 80%; Isolation Voltage: 5000Vrms; Number of Channels: 1; Category: Optocoupler Phototransistor; Match Code: WL-OCPT; ComponentLink1Description: Website Link; ComponentLink1URL: https://www.we-online.com/redexpert/article/140816141110?ad; ComponentLink2Description: Datasheet Link; ComponentLink2URL: https://www.we-online.com/redexpert/spec/140816141110?ad; Mount: Through Hole; Min Operating Temperature: -55°C; Max Operating Temperature: 110°C; Packaging: Tube; Case/Size Code: DIP4_M-Type; Length: 10.16mm; Width: 4.58mm; Height: 4.58mm; Collector Emitter Voltage: 80V; Forward Current: 60mA; Input: DC
footprint WL-OCPT_DIP4_M-Type
pins: 1 Anode, 2 Cathode, 3 Emitter, 4 Collector

## 140816141210
designator Q?, comment DC, 80V, 60mA
WL-OCPT Optocoupler Phototransistor, DIP4_M-Type, 1 Channel, DC, 80V, 60mA; Manufacturer Part Number: 140816141210; Manufacturer: Wurth Elektronik; Current Transfer Ratio Max: 260%; Current Transfer Ratio Min: 130%; Isolation Voltage: 5000Vrms; Number of Channels: 1; Category: Optocoupler Phototransistor; Match Code: WL-OCPT; ComponentLink1Description: Website Link; ComponentLink1URL: https://www.we-online.com/redexpert/article/140816141210?ad; ComponentLink2Description: Datasheet Link; ComponentLink2URL: https://www.we-online.com/redexpert/spec/140816141210?ad; Mount: Through Hole; Min Operating Temperature: -55°C; Max Operating Temperature: 110°C; Packaging: Tube; Case/Size Code: DIP4_M-Type; Length: 10.16mm; Width: 4.58mm; Height: 4.58mm; Collector Emitter Voltage: 80V; Forward Current: 60mA; Input: DC
footprint WL-OCPT_DIP4_M-Type
pins: 1 Anode, 2 Cathode, 3 Emitter, 4 Collector

## 140816141310
designator Q?, comment DC, 80V, 60mA
WL-OCPT Optocoupler Phototransistor, DIP4_M-Type, 1 Channel, DC, 80V, 60mA; Manufacturer Part Number: 140816141310; Manufacturer: Wurth Elektronik; Current Transfer Ratio Max: 400%; Current Transfer Ratio Min: 200%; Isolation Voltage: 5000Vrms; Number of Channels: 1; Category: Optocoupler Phototransistor; Match Code: WL-OCPT; ComponentLink1Description: Website Link; ComponentLink1URL: https://www.we-online.com/redexpert/article/140816141310?ad; ComponentLink2Description: Datasheet Link; ComponentLink2URL: https://www.we-online.com/redexpert/spec/140816141310?ad; Mount: Through Hole; Min Operating Temperature: -55°C; Max Operating Temperature: 110°C; Packaging: Tube; Case/Size Code: DIP4_M-Type; Length: 10.16mm; Width: 4.58mm; Height: 4.58mm; Collector Emitter Voltage: 80V; Forward Current: 60mA; Input: DC
footprint WL-OCPT_DIP4_M-Type
pins: 1 Anode, 2 Cathode, 3 Emitter, 4 Collector

## 140816141410
designator Q?, comment DC, 80V, 60mA
WL-OCPT Optocoupler Phototransistor, DIP4_M-Type, 1 Channel, DC, 80V, 60mA; Manufacturer Part Number: 140816141410; Manufacturer: Wurth Elektronik; Current Transfer Ratio Max: 600%; Current Transfer Ratio Min: 300%; Isolation Voltage: 5000Vrms; Number of Channels: 1; Category: Optocoupler Phototransistor; Match Code: WL-OCPT; ComponentLink1Description: Website Link; ComponentLink1URL: https://www.we-online.com/redexpert/article/140816141410?ad; ComponentLink2Description: Datasheet Link; ComponentLink2URL: https://www.we-online.com/redexpert/spec/140816141410?ad; Mount: Through Hole; Min Operating Temperature: -55°C; Max Operating Temperature: 110°C; Packaging: Tube; Case/Size Code: DIP4_M-Type; Length: 10.16mm; Width: 4.58mm; Height: 4.58mm; Collector Emitter Voltage: 80V; Forward Current: 60mA; Input: DC
footprint WL-OCPT_DIP4_M-Type
pins: 1 Anode, 2 Cathode, 3 Emitter, 4 Collector

## 140816142000
designator Q?, comment DC, 80V, 60mA
WL-OCPT Optocoupler Phototransistor, DIP4_S-Type, 1 Channel, DC, 80V, 60mA; Manufacturer Part Number: 140816142000; Manufacturer: Wurth Elektronik; Current Transfer Ratio Max: 600%; Current Transfer Ratio Min: 50%; Isolation Voltage: 5000Vrms; Number of Channels: 1; Category: Optocoupler Phototransistor; Match Code: WL-OCPT; ComponentLink1Description: Website Link; ComponentLink1URL: https://www.we-online.com/redexpert/article/140816142000?ad; ComponentLink2Description: Datasheet Link; ComponentLink2URL: https://www.we-online.com/redexpert/spec/140816142000?ad; Mount: Surface Mount; Min Operating Temperature: -55°C; Max Operating Temperature: 110°C; Packaging: Tape and Reel; Case/Size Code: DIP4_S-Type; Length: 10.15mm; Width: 4.58mm; Height: 4.3mm; Collector Emitter Voltage: 80V; Forward Current: 60mA; Input: DC
footprint WL-OCPT_DIP4_S-Type
pins: 1 Anode, 2 Cathode, 3 Emitter, 4 Collector

## 140816142100
designator Q?, comment DC, 80V, 60mA
WL-OCPT Optocoupler Phototransistor, DIP4_S-Type, 1 Channel, DC, 80V, 60mA; Manufacturer Part Number: 140816142100; Manufacturer: Wurth Elektronik; Current Transfer Ratio Max: 160%; Current Transfer Ratio Min: 80%; Isolation Voltage: 5000Vrms; Number of Channels: 1; Category: Optocoupler Phototransistor; Match Code: WL-OCPT; ComponentLink1Description: Website Link; ComponentLink1URL: https://www.we-online.com/redexpert/article/140816142100?ad; ComponentLink2Description: Datasheet Link; ComponentLink2URL: https://www.we-online.com/redexpert/spec/140816142100?ad; Mount: Surface Mount; Min Operating Temperature: -55°C; Max Operating Temperature: 110°C; Packaging: Tape and Reel; Case/Size Code: DIP4_S-Type; Length: 10.15mm; Width: 4.58mm; Height: 4.3mm; Collector Emitter Voltage: 80V; Forward Current: 60mA; Input: DC
footprint WL-OCPT_DIP4_S-Type
pins: 1 Anode, 2 Cathode, 3 Emitter, 4 Collector

## 140816142200
designator Q?, comment DC, 80V, 60mA
WL-OCPT Optocoupler Phototransistor, DIP4_S-Type, 1 Channel, DC, 80V, 60mA; Manufacturer Part Number: 140816142200; Manufacturer: Wurth Elektronik; Current Transfer Ratio Max: 260%; Current Transfer Ratio Min: 130%; Isolation Voltage: 5000Vrms; Number of Channels: 1; Category: Optocoupler Phototransistor; Match Code: WL-OCPT; ComponentLink1Description: Website Link; ComponentLink1URL: https://www.we-online.com/redexpert/article/140816142200?ad; ComponentLink2Description: Datasheet Link; ComponentLink2URL: https://www.we-online.com/redexpert/spec/140816142200?ad; Mount: Surface Mount; Min Operating Temperature: -55°C; Max Operating Temperature: 110°C; Packaging: Tape and Reel; Case/Size Code: DIP4_S-Type; Length: 10.15mm; Width: 4.58mm; Height: 4.3mm; Collector Emitter Voltage: 80V; Forward Current: 60mA; Input: DC
footprint WL-OCPT_DIP4_S-Type
pins: 1 Anode, 2 Cathode, 3 Emitter, 4 Collector

## 140816142300
designator Q?, comment DC, 80V, 60mA
WL-OCPT Optocoupler Phototransistor, DIP4_S-Type, 1 Channel, DC, 80V, 60mA; Manufacturer Part Number: 140816142300; Manufacturer: Wurth Elektronik; Current Transfer Ratio Max: 400%; Current Transfer Ratio Min: 200%; Isolation Voltage: 5000Vrms; Number of Channels: 1; Category: Optocoupler Phototransistor; Match Code: WL-OCPT; ComponentLink1Description: Website Link; ComponentLink1URL: https://www.we-online.com/redexpert/article/140816142300?ad; ComponentLink2Description: Datasheet Link; ComponentLink2URL: https://www.we-online.com/redexpert/spec/140816142300?ad; Mount: Surface Mount; Min Operating Temperature: -55°C; Max Operating Temperature: 110°C; Packaging: Tape and Reel; Case/Size Code: DIP4_S-Type; Length: 10.15mm; Width: 4.58mm; Height: 4.3mm; Collector Emitter Voltage: 80V; Forward Current: 60mA; Input: DC
footprint WL-OCPT_DIP4_S-Type
pins: 1 Anode, 2 Cathode, 3 Emitter, 4 Collector

## 140816142400
designator Q?, comment DC, 80V, 60mA
WL-OCPT Optocoupler Phototransistor, DIP4_S-Type, 1 Channel, DC, 80V, 60mA; Manufacturer Part Number: 140816142400; Manufacturer: Wurth Elektronik; Current Transfer Ratio Max: 600%; Current Transfer Ratio Min: 300%; Isolation Voltage: 5000Vrms; Number of Channels: 1; Category: Optocoupler Phototransistor; Match Code: WL-OCPT; ComponentLink1Description: Website Link; ComponentLink1URL: https://www.we-online.com/redexpert/article/140816142400?ad; ComponentLink2Description: Datasheet Link; ComponentLink2URL: https://www.we-online.com/redexpert/spec/140816142400?ad; Mount: Surface Mount; Min Operating Temperature: -55°C; Max Operating Temperature: 110°C; Packaging: Tape and Reel; Case/Size Code: DIP4_S-Type; Length: 10.15mm; Width: 4.58mm; Height: 4.3mm; Collector Emitter Voltage: 80V; Forward Current: 60mA; Input: DC
footprint WL-OCPT_DIP4_S-Type
pins: 1 Anode, 2 Cathode, 3 Emitter, 4 Collector

## 140816143000
designator Q?, comment DC, 80V, 60mA
WL-OCPT Optocoupler Phototransistor, DIP4_SL-Type, 1 Channel, DC, 80V, 60mA; Manufacturer Part Number: 140816143000; Manufacturer: Wurth Elektronik; Current Transfer Ratio Max: 600%; Current Transfer Ratio Min: 50%; Isolation Voltage: 5000Vrms; Number of Channels: 1; Category: Optocoupler Phototransistor; Match Code: WL-OCPT; ComponentLink1Description: Website Link; ComponentLink1URL: https://www.we-online.com/redexpert/article/140816143000?ad; ComponentLink2Description: Datasheet Link; ComponentLink2URL: https://www.we-online.com/redexpert/spec/140816143000?ad; Mount: Surface Mount; Min Operating Temperature: -55°C; Max Operating Temperature: 110°C; Packaging: Tape and Reel; Case/Size Code: DIP4_SL-Type; Length: 10.15mm; Width: 4.58mm; Height: 3.6mm; Collector Emitter Voltage: 80V; Forward Current: 60mA; Input: DC
footprint WL-OCPT_DIP4_SL-Type
pins: 1 Anode, 2 Cathode, 3 Emitter, 4 Collector

## 140816143100
designator Q?, comment DC, 80V, 60mA
WL-OCPT Optocoupler Phototransistor, DIP4_SL-Type, 1 Channel, DC, 80V, 60mA; Manufacturer Part Number: 140816143100; Manufacturer: Wurth Elektronik; Current Transfer Ratio Max: 160%; Current Transfer Ratio Min: 80%; Isolation Voltage: 5000Vrms; Number of Channels: 1; Category: Optocoupler Phototransistor; Match Code: WL-OCPT; ComponentLink1Description: Website Link; ComponentLink1URL: https://www.we-online.com/redexpert/article/140816143100?ad; ComponentLink2Description: Datasheet Link; ComponentLink2URL: https://www.we-online.com/redexpert/spec/140816143100?ad; Mount: Surface Mount; Min Operating Temperature: -55°C; Max Operating Temperature: 110°C; Packaging: Tape and Reel; Case/Size Code: DIP4_SL-Type; Length: 10.15mm; Width: 4.58mm; Height: 3.6mm; Collector Emitter Voltage: 80V; Forward Current: 60mA; Input: DC
footprint WL-OCPT_DIP4_SL-Type
pins: 1 Anode, 2 Cathode, 3 Emitter, 4 Collector

## 140816143200
designator Q?, comment DC, 80V, 60mA
WL-OCPT Optocoupler Phototransistor, DIP4_SL-Type, 1 Channel, DC, 80V, 60mA; Manufacturer Part Number: 140816143200; Manufacturer: Wurth Elektronik; Current Transfer Ratio Max: 260%; Current Transfer Ratio Min: 130%; Isolation Voltage: 5000Vrms; Number of Channels: 1; Category: Optocoupler Phototransistor; Match Code: WL-OCPT; ComponentLink1Description: Website Link; ComponentLink1URL: https://www.we-online.com/redexpert/article/140816143200?ad; ComponentLink2Description: Datasheet Link; ComponentLink2URL: https://www.we-online.com/redexpert/spec/140816143200?ad; Mount: Surface Mount; Min Operating Temperature: -55°C; Max Operating Temperature: 110°C; Packaging: Tape and Reel; Case/Size Code: DIP4_SL-Type; Length: 10.15mm; Width: 4.58mm; Height: 3.6mm; Collector Emitter Voltage: 80V; Forward Current: 60mA; Input: DC
footprint WL-OCPT_DIP4_SL-Type
pins: 1 Anode, 2 Cathode, 3 Emitter, 4 Collector